# Altium schematic symbol library IC - 1965-ESP32-S3-DEVKITC1-N8R8-ND.SchLib: 1 symbol
Pins are listed as number, name and electrical type; pins without a type are passive.

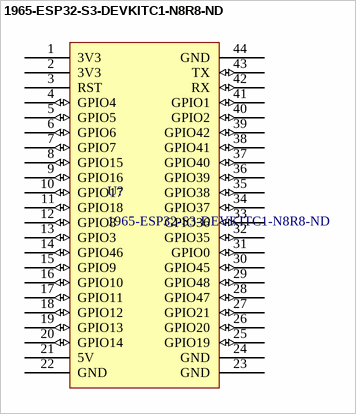
[diagram p0: symbol 1965-ESP32-S3-DEVKITC1-N8R8-ND]

## 1965-ESP32-S3-DEVKITC1-N8R8-ND
designator U?
Espressif ESP32-S3-DevKitC-1-N8R8 PCB Board Wi-Fi BT USB Type-C DevKit; Manufacturer: Espressif Systems; Supplier: DigiKey; Supplier Part Number: 1965-ESP32-S3-DEVKITC-1-N8R8-ND; Manufacturer Part Number: ESP32-S3-DEVKITC-1-N8R8; RoHS: Compliant; Category: NFC / RFID Components; Pricing: 1=15 (USD); ComponentLink1URL: https://datasheet.octopart.com:443/ESP32-S3-DEVKITC-1-N8R8-Espressif-Systems-datasheet-188867343.pdf?src-supplier=TME; ComponentLink1Description: https://datasheet.octopart.com:443/ESP32-S3-DEVKITC-1-N8R8-Espressif-Systems-datasheet-188867343.pdf?src-supplier=TME; ComponentLink2URL: https://datasheet.octopart.com:443/ESP32-S3-DEVKITC-1-N8R8-Espressif-Systems-datasheet-165560559.pdf?src-supplier=TME; ComponentLink2Description: https://datasheet.octopart.com:443/ESP32-S3-DEVKITC-1-N8R8-Espressif-Systems-datasheet-165560559.pdf?src-supplier=TME; Supplier 1: Mouser; Supplier Part Number 1: 356-EP32S3DVKTC1N8R8
pins: 1 3V3 (power), 2 3V3 (power), 3 RST, 4 GPIO4 (io), 5 GPIO5 (io), 6 GPIO6 (io), 7 GPIO7 (io), 8 GPIO15 (io), 9 GPIO16 (io), 10 GPIO17 (io), 11 GPIO18 (io), 12 GPIO8 (io), 13 GPIO3 (io), 14 GPIO46 (io), 15 GPIO9 (io), 16 GPIO10 (io), 17 GPIO11 (io), 18 GPIO12 (io), 19 GPIO13 (io), 20 GPIO14 (io), 21 5V (power), 22 GND (power), 23 GND (power), 24 GND (power), 25 GPIO19 (io), 26 GPIO20 (io), 27 GPIO21 (io), 28 GPIO47 (io), 29 GPIO48 (io), 30 GPIO45 (io), 31 GPIO0 (io), 32 GPIO35 (io), 33 GPIO36 (io), 34 GPIO37 (io), 35 GPIO38 (io), 36 GPIO39 (io), 37 GPIO40 (io), 38 GPIO41 (io), 39 GPIO42 (io), 40 GPIO2 (io), 41 GPIO1 (io), 42 RX (io), 43 TX (io), 44 GND (power)